# EAGLE library part LM2775DSGT (library LM2775DSGT)
Charge Pump Switching Regulator IC Positive Fixed 5V 1 Output 200mA 8-WFDFN Exposed Pad Source: Datasheet <http://www.ti.com/lit/ds/symlink/lm2775.pdf>
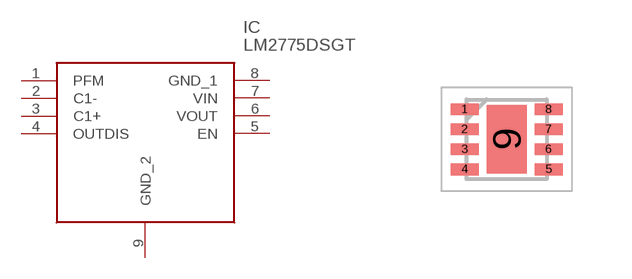
[diagram p0: symbol with the pads of SON50P200X200X80-9N; footprint SON50P200X200X80-9N]

Designator prefix IC

## LM2775DSGT (Description: Charge Pump Switching Regulator IC Positive Fixed 5V 1 Output 200mA 8-WFDFN Exposed Pad; Height: 0.8mm; Manufacturer_Name: Texas Instruments; Manufacturer_Part_Number: LM2775DSGT; Mouser_Part_Number: 595-LM2775DSGT; Mouser_Price-Stock: https://www.mouser.co.uk/ProductDetail/Texas-Instruments/LM2775DSGT?qs=GURawfaeGuC8OeiXDzqVsg%3D%3D)  [SON50P200X200X80-9N]
1  PFM
2  C1-
3  C1+
4  OUTDIS
5  EN
6  VOUT
7  VIN
8  GND_1
9  GND_2

## Footprint SON50P200X200X80-9N (pad centres in mm)
DSG0008A_2023
smd 0.7 x 0.3: 1 -1.05,0.75; 2 -1.05,0.25; 3 -1.05,-0.25; 4 -1.05,-0.75; 5 1.05,-0.75; 6 1.05,-0.25; 7 1.05,0.25; 8 1.05,0.75
smd 1 x 1.7: 9 0,0